# EAGLE library part W5500-MOD (library yb-library)
Wiznet W5500 Ethernet Modul (China Board)
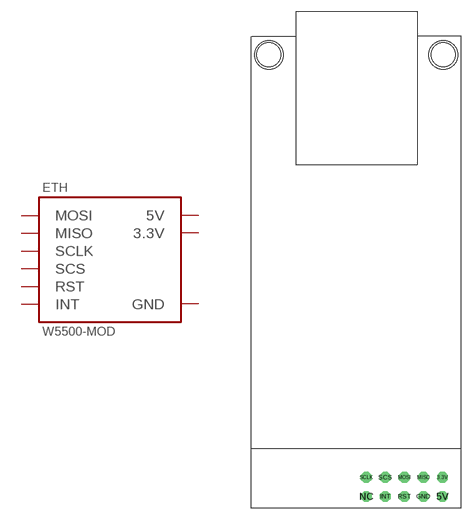
[diagram p14: symbol with the pads of W5500-MOD; footprint W5500-MOD]

Designator prefix ETH

## W5500-MOD  [W5500-MOD]
3.3V  3.3V  pwr
5V  5V  pwr
GND  GND  pwr
INT  INT  out
MISO  MISO  out
MOSI  MOSI  in
RST  RST  in
SCLK  SCLK  in
SCS  SCS  in

## Footprint W5500-MOD (pad centres in mm)
drill 0.914 octagon: 3.3V 11.43,-25.4; 5V 11.43,-27.94; GND 8.89,-27.94; INT 3.81,-27.94; MISO 8.89,-25.4; MOSI 6.35,-25.4; NC 1.27,-27.94; RST 6.35,-27.94; SCLK 1.27,-25.4; SCS 3.81,-25.4
hole 3.2 at 11.541,31.004
hole 3.2 at -11.7,31.004